# EAGLE library part MA03-2 (library we-con)
Pin Header
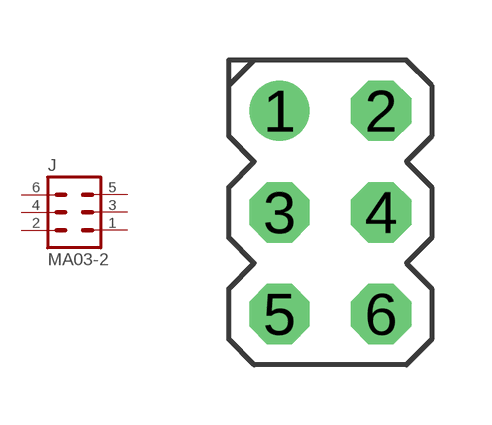
[diagram p1: symbol with the pads of MA03-2; footprint MA03-2]

Designator prefix J

## MA03-2  [MA03-2]
1  1  pas
2  2  pas
3  3  pas
4  4  pas
5  5  pas
6  6  pas

## Footprint MA03-2 (pad centres in mm)
drill 1: 1 -1.27,2.54
drill 1 octagon: 2 1.27,2.54; 3 -1.27,0; 4 1.27,0; 5 -1.27,-2.54; 6 1.27,-2.54